# Altium footprint library EXTRA.PcbLib: 25 footprints (part 1 of 2)
Each footprint in its own frame and in the unit in brackets; x right, y up, seen from the top. Pads: shape width x height; smd on the part's side, far side on the other; paste and mask are expansions set on the pad; w line width, h text height; cw(c..) or ccw(c..) is an arc to the next point about the centre after c.
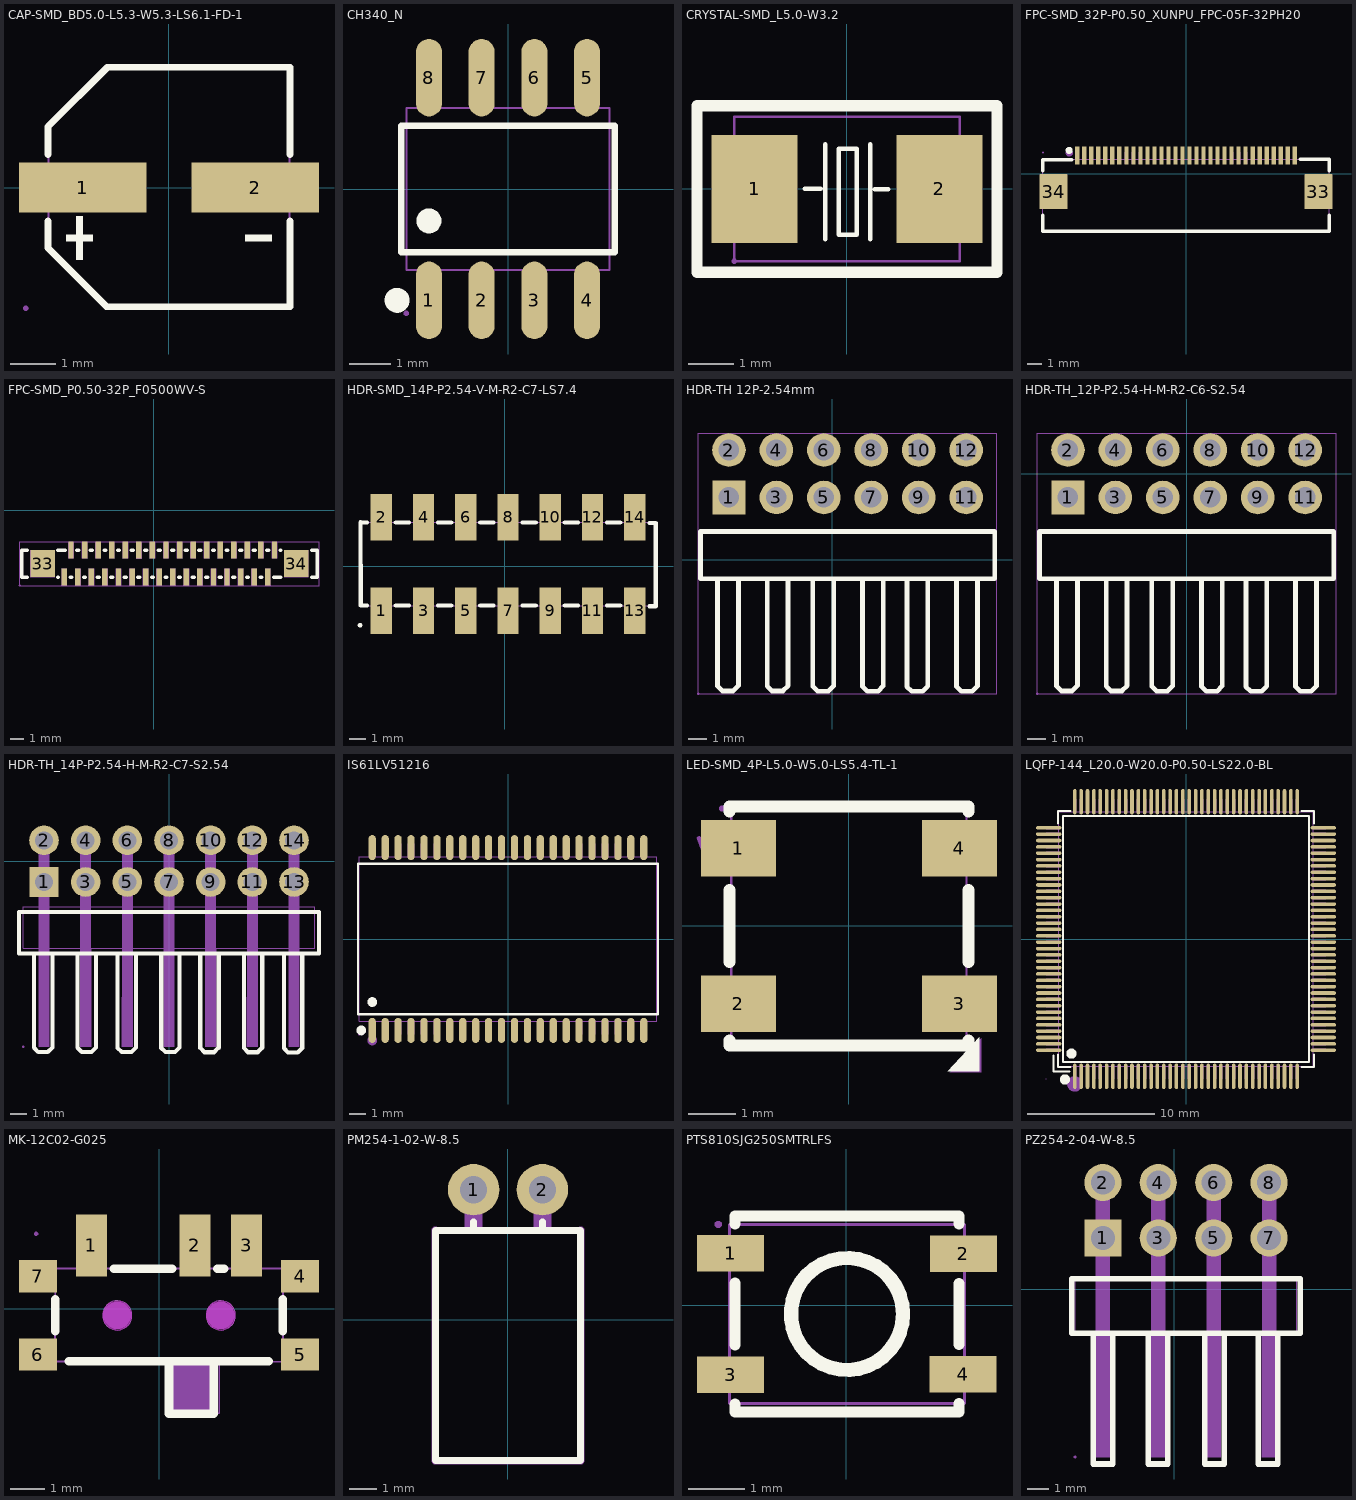
[diagram p0: the footprints below, top view; thin cyan lines are the x and y axes]

## CAP-SMD_BD5.0-L5.3-W5.3-LS6.1-FD-1 [mm]
pads (2):
  rect 2.8x1.1 smd: 1(-1.9,0) 2(1.9,0)
Top Overlay:
  region: -2.04,-0.624 -2.04,-1.584 -1.896,-1.584 -1.896,-0.624
  region: -2.256,-1.032 -2.256,-1.176 -1.68,-1.176 -1.68,-1.032
  region: 2.256,-1.032 2.256,-1.176 1.68,-1.176 1.68,-1.032
  lines w0.152: -2.659,-0.73 -2.659,-1.331 -1.372,-2.619 2.649,-2.619 ; -2.659,0.73 -2.659,1.341 -1.349,2.649 2.659,2.649 2.659,0.73 ; 2.659,-2.619 2.659,-0.73
Mechanical 6:
  region: -2.04,0.48 -2.04,-0.48 -1.896,-0.48 -1.896,0.48
  region: -2.256,0.072 -2.256,-0.072 -1.68,-0.072 -1.68,0.072
  region: 2.256,0.072 2.256,-0.072 1.68,-0.072 1.68,0.072
Mechanical 15:
  region: 0.95,0.325 3.15,0.325 3.15,-0.325 0.95,-0.325
  region: -3.15,0.325 -0.95,0.325 -0.95,-0.325 -3.15,-0.325
  region: -3.09,-2.65 -3.091,-2.626 -3.126,-2.592 -3.174,-2.592 -3.209,-2.626 -3.21,-2.65 -3.209,-2.674 -3.174,-2.708 -3.126,-2.708 -3.091,-2.674
  lines w0.051: -2.65,-1.35 -2.65,1.35 -1.35,2.65 2.65,2.65 2.65,-2.65 -1.35,-2.65 -2.65,-1.35
3D body "3D_PCB1_2024-03-23.stp": height 6.11, standoff -0.06, extent -2.931,-2.66 2.769,2.64

## CH340_N [mm] "USB转串口小封装芯片"
pads (8):
  oval 0.63x1.865 smd: 1(-1.905,-2.682) 2(-0.635,-2.682) 3(0.635,-2.682) 4(1.905,-2.682) 5(1.905,2.682) 6(0.635,2.682) 7(-0.635,2.682)
  oval 0.63x1.865 smd mask+0.102: 8(-1.905,2.682)
Top Overlay:
  circle w0.3: c-2.672,-2.682 r0.15
  circle w0.3: c-1.905,-0.769 r0.15
  lines w0.152: -2.576,-1.521 2.576,-1.521 2.576,1.521 -2.576,1.521 -2.576,-1.521
Mechanical 15:
  region: -2.115,-3 -2.115,-2.165 -1.695,-2.165 -1.695,-3
  region: -2.115,-2.175 -2.115,-1.94 -1.695,-1.94 -1.695,-2.175
  region: -0.845,-3 -0.845,-2.165 -0.425,-2.165 -0.425,-3
  region: -0.845,-2.175 -0.845,-1.94 -0.425,-1.94 -0.425,-2.175
  region: 0.425,-3 0.425,-2.165 0.845,-2.165 0.845,-3
  region: 0.425,-2.175 0.425,-1.94 0.845,-1.94 0.845,-2.175
  region: 1.695,-3 1.695,-2.165 2.115,-2.165 2.115,-3
  region: 1.695,-2.175 1.695,-1.94 2.115,-1.94 2.115,-2.175
  region: -2.115,2.165 -2.115,3 -1.695,3 -1.695,2.165
  region: -2.115,1.94 -2.115,2.175 -1.695,2.175 -1.695,1.94
  region: -0.845,2.165 -0.845,3 -0.425,3 -0.425,2.165
  region: -0.845,1.94 -0.845,2.175 -0.425,2.175 -0.425,1.94
  region: 0.425,2.165 0.425,3 0.845,3 0.845,2.165
  region: 0.425,1.94 0.425,2.175 0.845,2.175 0.845,1.94
  region: 1.695,2.165 1.695,3 2.115,3 2.115,2.165
  region: 1.695,1.94 1.695,2.175 2.115,2.175 2.115,1.94
  region: -2.39,-3 -2.39,-2.975 -2.425,-2.94 -2.475,-2.94 -2.51,-2.975 -2.51,-3 -2.51,-3.025 -2.475,-3.06 -2.425,-3.06 -2.39,-3.025
  lines w0.051: -2.45,-1.95 2.45,-1.95 2.45,1.95 -2.45,1.95 -2.45,-1.95
3D body "123.stp": height 1.67, standoff -0.05, extent -2.425,-2.94 2.39,3.06

## CRYSTAL-SMD_L5.0-W3.2 [mm] "8M 贴片晶振"
pads (2):
  rect 1.9x2.4 smd: 1(-2.05,0) 2(2.05,0)
Top Overlay:
  lines w0.1: -0.94,0 -0.584,0 ; -0.483,-1.109 -0.483,0.991 ; 0.517,-1.109 0.517,0.991 ; 0.617,-0.009 0.917,-0.009 ; -0.183,-1.009 -0.183,0.89 0.217,0.89 0.217,-1.009 -0.183,-1.009
  lines w0.254: -3.325,-1.85 3.325,-1.85 3.325,-0.7 3.325,0.7 3.325,1.85 -3.325,1.85 -3.325,0.7 -3.325,-0.7 -3.325,-1.85
Mechanical 15:
  region: -2.44,-1.6 -2.44,-1.575 -2.475,-1.54 -2.525,-1.54 -2.56,-1.575 -2.56,-1.6 -2.56,-1.625 -2.525,-1.66 -2.475,-1.66 -2.44,-1.625
  region: -2.4,1 -1.3,1 -1.3,-1 -2.4,-1
  region: 1.3,1 2.4,1 2.4,-1 1.3,-1
  lines w0.051: -2.5,-1.6 -2.5,1.6 2.5,1.6 2.5,-1.6 -2.5,-1.6
3D body "X1.stp": height 1.41, standoff -0.01, extent -2.5,-1.6 2.5,1.6

## FPC-SMD_32P-P0.50_XUNPU_FPC-05F-32PH20 [mm] "32pin FPC排线 弯针"
pads (34):
  rect 0.3x1.25 smd paste+0 mask+0.05: 1(-7.75,1.288) 2(-7.25,1.288) 3(-6.75,1.288) 4(-6.25,1.288) 5(-5.75,1.288) 6(-5.25,1.288) 7(-4.75,1.288) 8(-4.25,1.288) 9(-3.75,1.288) 10(-3.25,1.288) 11(-2.75,1.288) 12(-2.25,1.288) 13(-1.75,1.288) 14(-1.25,1.288) 15(-0.75,1.288) 16(-0.25,1.288) 17(0.25,1.288) 18(0.75,1.288) 19(1.25,1.288) 20(1.75,1.288) 21(2.25,1.288) 22(2.75,1.288) 23(3.25,1.288) 24(3.75,1.288) 25(4.25,1.288) 26(4.75,1.288) 27(5.25,1.288) 28(5.75,1.288) 29(6.25,1.288) 30(6.75,1.288) 31(7.25,1.288) 32(7.75,1.288)
  rect 2x2.5 smd paste+0 mask+0.05: 33(9.44,-1.288) 34(-9.44,-1.288)
Top Overlay:
  circle w0.254: c-8.327,1.651 r0.127
  lines w0.254: -10.2,-2.969 -10.2,-4.113 10.2,-4.113 10.2,-2.969 ; -10.2,0.194 -10.2,1 -8.131,1 ; 8.131,1.016 10.2,1.016 10.2,0.194
Mechanical 6:
  circle w0.254: c-8.317,1.471 r0.127
Mechanical 15:
  drawing of 39 lines, arcs and shapes, not listed
3D body "FPC.stp": height 2.01, standoff 0, extent -10.2,-4.113 10.2,1.287

## FPC-SMD_P0.50-32P_F0500WV-S [mm] "FPC_32PIN 直立"
height 0.508
pads (34):
  rect 0.4x1.25 smd paste+0 mask+0.051: 1(-6.607,-4.938) 2(-6.109,-2.936) 3(-5.609,-4.936) 4(-5.109,-2.936) 5(-4.609,-4.936) 6(-4.109,-2.936) 7(-3.609,-4.936) 8(-3.109,-2.936) 9(-2.609,-4.936) 10(-2.109,-2.936) 11(-1.609,-4.936) 12(-1.107,-2.938) 13(-0.609,-4.936) 14(-0.109,-2.936) 15(0.391,-4.936) 16(0.891,-2.936) 17(1.391,-4.936) 18(1.891,-2.936) 19(2.391,-4.936) 20(2.891,-2.936) 21(3.391,-4.936) 22(3.891,-2.936) 23(4.393,-4.938) 24(4.891,-2.936) 25(5.391,-4.936) 26(5.891,-2.936) 27(6.393,-4.938) 28(6.891,-2.936) 29(7.391,-4.936) 30(7.891,-2.936) 31(8.391,-4.936) 32(8.891,-2.936)
  rect 1.8x2 smd paste+0 mask+0.051: 33(-8.207,-3.938) 34(10.493,-3.938)
Top Overlay:
  lines w0.254: -9.338,-4.938 -9.757,-4.938 -9.757,-2.938 -9.338,-2.938 ; -7.076,-4.938 -7.038,-4.938 ; -7.076,-2.938 -6.54,-2.938 ; -6.176,-4.938 -6.04,-4.938 ; -5.678,-2.938 -5.54,-2.938 ; -5.178,-4.938 -5.04,-4.938 ; -4.678,-2.938 -4.54,-2.938 ; -4.178,-4.938 -4.04,-4.938 ; -3.678,-2.938 -3.54,-2.938 ; -3.178,-4.938 -3.04,-4.938 ; -2.678,-2.938 -2.54,-2.938 ; -2.178,-4.938 -2.04,-4.938 ; -1.678,-2.938 -1.538,-2.938 ; -1.178,-4.938 -1.04,-4.938 ; -0.676,-2.938 -0.54,-2.938 ; -0.178,-4.938 -0.04,-4.938 ; 0.322,-2.938 0.46,-2.938 ; 0.822,-4.938 0.96,-4.938 ; 1.322,-2.938 1.46,-2.938 ; 1.822,-4.938 1.96,-4.938 ; 2.322,-2.938 2.46,-2.938 ; 2.822,-4.938 2.96,-4.938 ; 3.322,-2.938 3.46,-2.938 ; 3.822,-4.938 3.962,-4.938 ; 4.322,-2.938 4.46,-2.938 ; 4.824,-4.938 4.96,-4.938 ; 5.322,-2.938 5.46,-2.938 ; 5.822,-4.938 5.962,-4.938 ; 6.322,-2.938 6.46,-2.938 ; 6.824,-4.938 6.96,-4.938 ; 7.322,-2.938 7.46,-2.938 ; 7.822,-4.938 7.96,-4.938 ; 8.322,-2.938 8.46,-2.938 ; 8.822,-4.938 9.362,-4.938 ; 9.322,-2.938 9.362,-2.938 ; 11.624,-4.938 12.043,-4.938 12.043,-2.938 11.624,-2.938
Mechanical 15:
  drawing of 39 lines, arcs and shapes, not listed

## HDR-SMD_14P-P2.54-V-M-R2-C7-LS7.4 [mm] "2.54mm 2x7p贴片排针"
pads (14):
  rect 1.27x2.8 smd paste+0 mask+0.05: 1(-7.433,-2.664) 2(-7.433,2.936) 3(-4.893,-2.664) 4(-4.893,2.936) 5(-2.353,-2.664) 6(-2.353,2.936) 7(0.187,-2.664) 8(0.187,2.936) 9(2.727,-2.664) 10(2.727,2.936) 11(5.267,-2.664) 12(5.267,2.936) 13(7.807,-2.664) 14(7.807,2.936)
Top Overlay:
  lines w0.254: -8.726,-3.547 -8.68,-3.547 ; -8.678,2.651 -8.673,-2.364 -8.299,-2.364 ; -8.673,2.651 -8.573,2.636 -8.299,2.636 ; -6.567,-2.364 -5.759,-2.364 ; -6.567,2.636 -5.759,2.636 ; -4.027,-2.364 -3.219,-2.364 ; -4.027,2.636 -3.219,2.636 ; -1.487,-2.364 -0.679,-2.364 ; -1.487,2.636 -0.679,2.636 ; 1.053,-2.364 1.861,-2.364 ; 1.053,2.636 1.861,2.636 ; 3.593,-2.364 4.401,-2.364 ; 3.593,2.636 4.401,2.636 ; 6.133,-2.364 6.941,-2.364 ; 6.133,2.636 6.941,2.636 ; 8.695,-2.403 9.076,-2.403 9.076,2.596 8.695,2.596
Mechanical 15:
  region: -7.753,-1.564 -7.113,-1.564 -7.113,-3.564 -7.753,-3.564
  region: -5.213,-1.564 -4.573,-1.564 -4.573,-3.564 -5.213,-3.564
  region: -2.673,-1.564 -2.033,-1.564 -2.033,-3.564 -2.673,-3.564
  region: -0.133,-1.564 0.507,-1.564 0.507,-3.564 -0.133,-3.564
  region: 2.407,-1.564 3.047,-1.564 3.047,-3.564 2.407,-3.564
  region: 4.947,-1.564 5.587,-1.564 5.587,-3.564 4.947,-3.564
  region: 7.487,-1.564 8.127,-1.564 8.127,-3.564 7.487,-3.564
  region: 7.487,3.836 8.127,3.836 8.127,1.836 7.487,1.836
  region: 4.947,3.836 5.587,3.836 5.587,1.836 4.947,1.836
  region: 2.407,3.836 3.047,3.836 3.047,1.836 2.407,1.836
  region: -0.133,3.836 0.507,3.836 0.507,1.836 -0.133,1.836
  region: -2.673,3.836 -2.033,3.836 -2.033,1.836 -2.673,1.836
  region: -5.213,3.836 -4.573,3.836 -4.573,1.836 -5.213,1.836
  region: -7.753,3.836 -7.113,3.836 -7.113,1.836 -7.753,1.836
  region: -8.643,-3.564 -8.643,-3.539 -8.678,-3.504 -8.728,-3.504 -8.763,-3.539 -8.763,-3.564 -8.763,-3.589 -8.728,-3.624 -8.678,-3.624 -8.643,-3.589
  lines w0.051: -8.703,-2.364 9.077,-2.364 9.077,2.636 -8.703,2.636 -8.703,-2.364

## HDR-TH 12P-2.54mm [mm] "上下6p弯曲排针"
pads (12):
  rect 1.778x1.8 hole 1.1: 1(-5.528,3.328)
  round 1.8 hole 1.1: 2(-5.528,5.868) 3(-2.988,3.328) 4(-2.988,5.868) 5(-0.448,3.328) 6(-0.448,5.868) 7(2.092,3.328) 8(2.092,5.868) 9(4.632,3.328) 10(4.632,5.868) 11(7.172,3.328) 12(7.172,5.868)
Top Overlay:
  lines w0.254: -6.135,-1.032 -6.135,-6.778 -5.881,-7.032 -5.297,-7.032 -5.018,-6.753 -5.018,-1.032 ; -3.478,-1.032 -3.478,-6.778 -3.224,-7.032 -2.64,-7.032 -2.36,-6.753 -2.36,-1.032 ; -1.038,-1.042 -1.038,-6.788 -0.784,-7.042 -0.2,-7.042 0.08,-6.763 0.08,-1.042 ; 1.62,-1.042 1.62,-6.788 1.874,-7.042 2.458,-7.042 2.737,-6.763 2.737,-1.042 ; 4.002,-1.052 4.002,-6.798 4.256,-7.052 4.84,-7.052 5.12,-6.773 5.12,-1.052 ; 6.659,-1.052 6.659,-6.798 6.913,-7.052 7.498,-7.052 7.777,-6.773 7.777,-1.052 ; -7.052,-1.032 -7.052,1.508 8.696,1.508 8.696,-1.032 -6.958,-1.032 -7.052,-1.032
Mechanical 15:
  drawing of 17 lines, arcs and shapes, not listed

## HDR-TH_12P-P2.54-H-M-R2-C6-S2.54 [mm] "2x6p 弯针"
pads (12):
  rect 1.778x1.8 hole 1.1: 1(-6.35,-1.27)
  round 1.8 hole 1.1: 2(-6.35,1.27) 3(-3.81,-1.27) 4(-3.81,1.27) 5(-1.27,-1.27) 6(-1.27,1.27) 7(1.27,-1.27) 8(1.27,1.27) 9(3.81,-1.27) 10(3.81,1.27) 11(6.35,-1.27) 12(6.35,1.27)
Top Overlay:
  lines w0.254: -6.957,-5.63 -6.957,-11.376 -6.703,-11.63 -6.119,-11.63 -5.84,-11.351 -5.84,-5.63 ; -4.3,-5.63 -4.3,-11.376 -4.046,-11.63 -3.462,-11.63 -3.182,-11.351 -3.182,-5.63 ; -1.86,-5.64 -1.86,-11.386 -1.606,-11.64 -1.022,-11.64 -0.742,-11.361 -0.742,-5.64 ; 0.798,-5.64 0.798,-11.386 1.052,-11.64 1.636,-11.64 1.915,-11.361 1.915,-5.64 ; 3.18,-5.65 3.18,-11.396 3.434,-11.65 4.018,-11.65 4.298,-11.371 4.298,-5.65 ; 5.837,-5.65 5.837,-11.396 6.091,-11.65 6.676,-11.65 6.955,-11.371 6.955,-5.65 ; -7.874,-5.63 -7.78,-5.63 7.874,-5.63 7.874,-3.09 -7.874,-3.09 -7.874,-5.63
Mechanical 15:
  drawing of 17 lines, arcs and shapes, not listed
3D body "xxxxxx.stp": height 5, standoff -3, extent -7.625,-11.249 7.625,1.651

## HDR-TH_14P-P2.54-H-M-R2-C7-S2.54 [mm]
pads (14):
  rect 1.778x1.8 hole 1.1: 1(-7.62,-1.27)
  round 1.8 hole 1.1: 2(-7.62,1.27) 3(-5.08,-1.27) 4(-5.08,1.27) 5(-2.54,-1.27) 6(-2.54,1.27) 7(0,-1.27) 8(0,1.27) 9(2.54,-1.27) 10(2.54,1.27) 11(5.08,-1.27) 12(5.08,1.27) 13(7.62,-1.27) 14(7.62,1.27)
Top Overlay:
  lines w0.254: -8.227,-5.63 -8.227,-11.376 -7.973,-11.63 -7.389,-11.63 -7.11,-11.351 -7.11,-5.63 ; -5.57,-5.63 -5.57,-11.376 -5.316,-11.63 -4.732,-11.63 -4.452,-11.351 -4.452,-5.63 ; -3.13,-5.64 -3.13,-11.386 -2.876,-11.64 -2.292,-11.64 -2.012,-11.361 -2.012,-5.64 ; -0.472,-5.64 -0.472,-11.386 -0.218,-11.64 0.366,-11.64 0.645,-11.361 0.645,-5.64 ; 1.91,-5.65 1.91,-11.396 2.164,-11.65 2.748,-11.65 3.028,-11.371 3.028,-5.65 ; 4.567,-5.65 4.567,-11.396 4.821,-11.65 5.406,-11.65 5.685,-11.371 5.685,-5.65 ; 7.008,-5.66 7.008,-11.406 7.262,-11.66 7.846,-11.66 8.125,-11.381 8.125,-5.66 ; -9.144,-5.63 -9.144,-3.09 9.144,-3.09 9.144,-5.63 -9.05,-5.63 -9.144,-5.63
Mechanical 6:
  region: 7.3,-5.3 7.95,-5.3 7.95,-11.31 7.29,-11.31 7.29,-11.24
  region: 4.76,-5.3 5.41,-5.3 5.41,-11.31 4.75,-11.31 4.75,-11.24
  region: 2.22,-5.3 2.87,-5.3 2.87,-11.31 2.21,-11.31 2.21,-11.24
  region: -0.32,-5.3 0.33,-5.3 0.33,-11.31 -0.33,-11.31 -0.33,-11.24
  region: -2.86,-5.3 -2.21,-5.3 -2.21,-11.31 -2.87,-11.31 -2.87,-11.24
  region: -5.4,-5.3 -4.75,-5.3 -4.75,-11.31 -5.41,-11.31 -5.41,-11.24
  region: -7.94,-5.3 -7.29,-5.3 -7.29,-11.31 -7.95,-11.31 -7.95,-11.24
Mechanical 15:
  region: 7.3,-11.311 7.3,1.589 7.94,1.589 7.94,-11.311
  region: 4.76,-11.311 4.76,1.589 5.4,1.589 5.4,-11.311
  region: 2.22,-11.311 2.22,1.589 2.86,1.589 2.86,-11.311
  region: -0.32,-11.311 -0.32,1.589 0.32,1.589 0.32,-11.311
  region: -2.86,-11.311 -2.86,1.589 -2.22,1.589 -2.22,-11.311
  region: -5.4,-11.311 -5.4,1.589 -4.76,1.589 -4.76,-11.311
  region: -7.94,-11.311 -7.94,1.589 -7.3,1.589 -7.3,-11.311
  region: -7.3,-1.59 -7.94,-1.59 -7.94,-0.95 -7.3,-0.95
  region: -7.3,0.95 -7.94,0.95 -7.94,1.59 -7.3,1.59
  region: -4.76,-1.59 -5.4,-1.59 -5.4,-0.95 -4.76,-0.95
  region: -4.76,0.95 -5.4,0.95 -5.4,1.59 -4.76,1.59
  region: -2.22,-1.59 -2.86,-1.59 -2.86,-0.95 -2.22,-0.95
  region: -2.22,0.95 -2.86,0.95 -2.86,1.59 -2.22,1.59
  region: 0.32,-1.59 -0.32,-1.59 -0.32,-0.95 0.32,-0.95
  region: 0.32,0.95 -0.32,0.95 -0.32,1.59 0.32,1.59
  region: 2.86,-1.59 2.22,-1.59 2.22,-0.95 2.86,-0.95
  region: 2.86,0.95 2.22,0.95 2.22,1.59 2.86,1.59
  region: 5.4,-1.59 4.76,-1.59 4.76,-0.95 5.4,-0.95
  region: 5.4,0.95 4.76,0.95 4.76,1.59 5.4,1.59
  region: 7.94,-1.59 7.3,-1.59 7.3,-0.95 7.94,-0.95
  region: 7.94,0.95 7.3,0.95 7.3,1.59 7.94,1.59
  region: -8.833,-11.311 -8.833,-11.336 -8.868,-11.371 -8.917,-11.371 -8.953,-11.336 -8.953,-11.311 -8.953,-11.286 -8.917,-11.251 -8.868,-11.251 -8.833,-11.286
  lines w0.051: -8.893,-5.307 -8.893,-4.546 -8.883,-2.792 8.892,-2.792 8.892,-5.307 -8.893,-5.307
3D body "Unnamed-EasyEDA PCB Model~vdyU.step": height 6.6, standoff -1.4, extent -8.844,-11.297 8.937,1.583

## IS61LV51216 [mm] "TSOP-44_L18.4-W10.2-P0.80-LS11.8-BL"
pads (44):
  oval 0.448x1.551 smd: 1(-8.4,-5.656) 2(-7.6,-5.656) 3(-6.8,-5.656) 4(-6,-5.656) 5(-5.2,-5.656) 6(-4.4,-5.656) 7(-3.6,-5.656) 8(-2.8,-5.656) 9(-2,-5.656) 10(-1.2,-5.656) 11(-0.4,-5.656) 12(0.4,-5.656) 13(1.2,-5.656) 14(2,-5.656) 15(2.8,-5.656) 16(3.6,-5.656) 17(4.4,-5.656) 18(5.2,-5.656) 19(6,-5.656) 20(6.8,-5.656) 21(7.6,-5.656) 22(8.4,-5.656) 23(8.4,5.656) 24(7.6,5.656) 25(6.8,5.656) 26(6,5.656) 27(5.2,5.656) 28(4.4,5.656) 29(3.6,5.656) 30(2.8,5.656) 31(2,5.656) 32(1.2,5.656) 33(0.4,5.656) 34(-0.4,5.656) 35(-1.2,5.656) 36(-2,5.656) 37(-2.8,5.656) 38(-3.6,5.656) 39(-4.4,5.656) 40(-5.2,5.656) 41(-6,5.656) 42(-6.8,5.656) 43(-7.6,5.656) 44(-8.4,5.656)
Top Overlay:
  circle w0.3: c-8.4,-3.899 r0.15
  circle w0.3: c-9.076,-5.656 r0.15
  lines w0.152: -9.281,-4.651 -9.281,4.651 9.281,4.651 9.281,-4.651 -9.281,-4.651
Mechanical 6:
  circle w0.3: c-8.4,-6.28 r0.15
Mechanical 15:
  drawing of 93 lines, arcs and shapes, not listed
3D body "SRAM.stp": height 1.1, standoff 0, extent -9.205,-5.906 9.195,5.906

## LED-SMD_4P-L5.0-W5.0-LS5.4-TL-1 [mm]
pads (4):
  rect 1.6x1.2 smd paste+0 mask+0.05: 1(-2.35,1.65) 2(-2.35,-1.65) 3(2.35,-1.65) 4(2.35,1.65)
Top Overlay:
  region: 2.101,-3.085 2.775,-3.085 2.775,-2.361
  lines w0.254: -2.54,-2.431 -2.54,-2.54 2.54,-2.54 2.54,-2.431 ; -2.54,-0.769 -2.54,0.769 ; -2.54,2.431 -2.54,2.54 2.54,2.54 2.54,2.431 ; 2.54,-0.769 2.54,0.769
Mechanical 6:
  region: -2.723,1.909 -2.759,1.912 -2.782,1.894 -2.964,1.433 -3.144,1.89 -3.175,1.911 -3.199,1.911 -3.219,1.899 -3.231,1.875 -3.229,1.843 -3.01,1.26 -2.993,1.249 -2.972,1.241 -2.949,1.241 -2.926,1.249 -2.914,1.277 -2.695,1.856 -2.693,1.873 -2.707,1.896
  region: -2.582,1.915 -2.357,1.912 -2.251,1.862 -2.187,1.803 -2.155,1.727 -2.128,1.642 -2.13,1.491 -2.162,1.39 -2.198,1.333 -2.262,1.276 -2.381,1.239 -2.588,1.244 -2.615,1.267 -2.617,1.296 -2.617,1.362 -2.514,1.359 -2.517,1.344 -2.393,1.341 -2.318,1.365 -2.275,1.401 -2.256,1.448 -2.233,1.517 -2.236,1.63 -2.281,1.749 -2.319,1.791 -2.383,1.809 -2.515,1.81
  region: -2.581,1.915 -2.615,1.885 -2.618,1.358 -2.51,1.357 -2.516,1.81
  region: -2.029,1.912 -1.804,1.909 -1.698,1.859 -1.634,1.8 -1.602,1.724 -1.575,1.639 -1.577,1.488 -1.609,1.387 -1.645,1.33 -1.709,1.273 -1.828,1.237 -2.035,1.241 -2.062,1.264 -2.064,1.293 -2.064,1.359 -1.961,1.356 -1.964,1.341 -1.84,1.338 -1.765,1.362 -1.722,1.398 -1.703,1.445 -1.68,1.514 -1.683,1.627 -1.728,1.746 -1.766,1.788 -1.83,1.806 -1.962,1.808
  region: -2.028,1.912 -2.062,1.882 -2.065,1.355 -1.957,1.354 -1.963,1.808
  region: 2.143,-3.113 2.816,-3.113 2.816,-2.39
Mechanical 15:
  region: -2.7,2.1 -1.8,2.1 -1.8,1.2 -2.7,1.2
  region: -2.7,-1.2 -1.8,-1.2 -1.8,-2.1 -2.7,-2.1
  region: 1.8,-1.2 2.7,-1.2 2.7,-2.1 1.8,-2.1
  region: 1.8,2.1 2.7,2.1 2.7,1.2 1.8,1.2
  region: -2.64,2.5 -2.64,2.475 -2.675,2.44 -2.725,2.44 -2.76,2.475 -2.76,2.5 -2.76,2.525 -2.725,2.56 -2.675,2.56 -2.64,2.525 -2.64,2.5
  lines w0.051: -2.5,-2.5 2.5,-2.5 2.5,2.5 -2.5,2.5 -2.5,-2.5
3D body "未命名-EasyEDA PCB Model~AiEG.step": height 1.55, standoff -0.05, extent -2.811,-2.51 2.649,2.49

## LQFP-144_L20.0-W20.0-P0.50-LS22.0-BL [mm] "意法半导体主控芯片"
pads (144):
  oval 0.28x2 smd paste+0 mask+0.051: 1(-8.75,-10.8) 2(-8.25,-10.8) 3(-7.75,-10.8) 4(-7.25,-10.8) 5(-6.75,-10.8) 6(-6.25,-10.8) 7(-5.75,-10.8) 8(-5.25,-10.8) 9(-4.75,-10.8) 10(-4.25,-10.8) 11(-3.75,-10.8) 12(-3.25,-10.8) 13(-2.75,-10.8) 14(-2.25,-10.8) 15(-1.75,-10.8) 16(-1.25,-10.8) 17(-0.75,-10.8) 18(-0.25,-10.8) 19(0.25,-10.8) 20(0.75,-10.8) 21(1.25,-10.8) 22(1.75,-10.8) 23(2.25,-10.8) 24(2.75,-10.8) 25(3.25,-10.8) 26(3.75,-10.8) 27(4.25,-10.8) 28(4.75,-10.8) 29(5.25,-10.8) 30(5.75,-10.8) 31(6.25,-10.8) 32(6.75,-10.8) 33(7.25,-10.8) 34(7.75,-10.8) 35(8.25,-10.8) 36(8.75,-10.8) 73(8.75,10.8) 74(8.25,10.8) 75(7.75,10.8) 76(7.25,10.8) 77(6.75,10.8) 78(6.25,10.8) 79(5.75,10.8) 80(5.25,10.8) 81(4.75,10.8) 82(4.25,10.8) 83(3.75,10.8) 84(3.25,10.8) 85(2.75,10.8) 86(2.25,10.8) 87(1.75,10.8) 88(1.25,10.8) 89(0.75,10.8) 90(0.25,10.8) 91(-0.25,10.8) 92(-0.75,10.8) 93(-1.25,10.8) 94(-1.75,10.8) 95(-2.25,10.8) 96(-2.75,10.8) 97(-3.25,10.8) 98(-3.75,10.8) 99(-4.25,10.8) 100(-4.75,10.8) 101(-5.25,10.8) 102(-5.75,10.8) 103(-6.25,10.8) 104(-6.75,10.8) 105(-7.25,10.8) 106(-7.75,10.8) 107(-8.25,10.8) 108(-8.75,10.8)
  oval 2x0.28 smd paste+0 mask+0.051: 37(10.8,-8.75) 38(10.8,-8.25) 39(10.8,-7.75) 40(10.8,-7.25) 41(10.8,-6.75) 42(10.8,-6.25) 43(10.8,-5.75) 44(10.8,-5.25) 45(10.8,-4.75) 46(10.8,-4.25) 47(10.8,-3.75) 48(10.8,-3.25) 49(10.8,-2.75) 50(10.8,-2.25) 51(10.8,-1.75) 52(10.8,-1.25) 53(10.8,-0.75) 54(10.8,-0.25) 55(10.8,0.25) 56(10.8,0.75) 57(10.8,1.25) 58(10.8,1.75) 59(10.8,2.25) 60(10.8,2.75) 61(10.8,3.25) 62(10.8,3.75) 63(10.8,4.25) 64(10.8,4.75) 65(10.8,5.25) 66(10.8,5.75) 67(10.8,6.25) 68(10.8,6.75) 69(10.8,7.25) 70(10.8,7.75) 71(10.8,8.25) 72(10.8,8.75) 109(-10.8,8.75) 110(-10.8,8.25) 111(-10.8,7.75) 112(-10.8,7.25) 113(-10.8,6.75) 114(-10.8,6.25) 115(-10.8,5.75) 116(-10.8,5.25) 117(-10.8,4.75) 118(-10.8,4.25) 119(-10.8,3.75) 120(-10.8,3.25) 121(-10.8,2.75) 122(-10.8,2.25) 123(-10.8,1.75) 124(-10.8,1.25) 125(-10.8,0.75) 126(-10.8,0.25) 127(-10.8,-0.25) 128(-10.8,-0.75) 129(-10.8,-1.25) 130(-10.8,-1.75) 131(-10.8,-2.25) 132(-10.8,-2.75) 133(-10.8,-3.25) 134(-10.8,-3.75) 135(-10.8,-4.25) 136(-10.8,-4.75) 137(-10.8,-5.25) 138(-10.8,-5.75) 139(-10.8,-6.25) 140(-10.8,-6.75) 141(-10.8,-7.25) 142(-10.8,-7.75) 143(-10.8,-8.25) 144(-10.8,-8.75)
Top Overlay:
  circle w0.4: c-9.525,-11.049 r0.2
  circle w0.4: c-9.017,-9.017 r0.2
  lines w0.152: -10.414,-9.144 -10.414,-10.414 -9.144,-10.414 ; -10.076,-9.081 -10.076,-10.076 -9.08,-10.076 ; -10.076,9.08 -10.076,10.076 -9.08,10.076 ; 9.081,-10.076 10.076,-10.076 10.076,-9.081 ; 9.081,10.076 10.076,10.076 10.076,9.08 ; -9.671,-9.671 -9.671,9.671 9.671,9.671 9.671,-9.671 -9.671,-9.671
Mechanical 6:
  circle w0.6: c-8.75,-11.4 r0.3
Mechanical 15:
  drawing of 293 lines, arcs and shapes, not listed
3D body "456.stp": height 1.4, standoff -0.1, extent -11.026,-11.01 10.974,10.99

## MK-12C02-G025 [mm] "贴片拨动开关"
pads (7):
  rect 0.9x1.8 smd: 1(-1.964,1.835) 2(1.036,1.835) 3(2.536,1.835)
  rect 1.1x0.93 smd: 4(4.086,0.939) 5(4.086,-1.331) 6(-3.514,-1.331) 7(-3.514,0.939)
Top Overlay:
  lines w0.254: -3.014,-0.658 -3.014,0.266 ; -2.614,-1.524 3.175,-1.524 ; -1.306,1.154 0.378,1.154 ; 0.286,-1.546 0.286,-3.046 1.586,-3.046 1.586,-1.546 ; 1.694,1.154 1.878,1.154 ; 3.586,-0.658 3.586,0.266
Keep-Out Layer:
  board cut-out: -0.789,-0.196 -0.789,-0.112 -0.854,0.044 -0.973,0.164 -1.13,0.229 -1.299,0.229 -1.455,0.164 -1.574,0.044 -1.639,-0.112 -1.639,-0.196 -1.639,-0.281 -1.574,-0.437 -1.455,-0.557 -1.299,-0.621 -1.129,-0.621 -0.973,-0.557 -0.854,-0.437 -0.789,-0.281
  board cut-out: 2.211,-0.196 2.211,-0.112 2.146,0.044 2.027,0.164 1.87,0.229 1.701,0.229 1.545,0.164 1.426,0.044 1.361,-0.112 1.361,-0.196 1.361,-0.281 1.426,-0.437 1.545,-0.557 1.701,-0.621 1.87,-0.621 2.027,-0.557 2.146,-0.437 2.211,-0.281
Mechanical 1:
  circle w0.005: c-1.214,-0.196 r0.425
  circle w0.005: c1.786,-0.196 r0.425
Mechanical 6:
  circle w0.4: c1.786,-0.196 r0.2
  circle w0.4: c-1.214,-0.196 r0.2
  region: 0.386,-1.548 0.386,-3.048 1.686,-3.048 1.686,-1.548
Mechanical 15:
  region: 3.542,-1.546 3.542,-1.116 4.142,-1.116 4.142,-1.546
  region: 3.542,0.724 3.542,1.154 4.142,1.154 4.142,0.724
  region: -3.567,-1.546 -3.567,-1.116 -2.967,-1.116 -2.967,-1.546
  region: -3.567,0.724 -3.567,1.154 -2.967,1.154 -2.967,0.724
  region: 2.736,0.965 2.336,0.965 2.336,2.165 2.736,2.165
  region: 1.236,0.965 0.836,0.965 0.836,2.165 1.236,2.165
  region: -1.764,0.965 -2.164,0.965 -2.164,2.165 -1.764,2.165
  region: -3.507,2.165 -3.507,2.189 -3.542,2.223 -3.591,2.223 -3.626,2.189 -3.627,2.165 -3.626,2.141 -3.591,2.107 -3.542,2.107 -3.507,2.141
  lines w0.051: -3.017,-1.537 -3.017,-1.372 -3.014,1.165 3.591,1.165 3.591,-1.541 1.743,-1.541 1.743,-3.037 0.445,-3.037 0.445,-1.537 -3.017,-1.537
Multi-Layer keep-out:
  region: -0.789,-0.196 -0.789,-0.112 -0.854,0.044 -0.973,0.164 -1.13,0.229 -1.299,0.229 -1.455,0.164 -1.574,0.044 -1.639,-0.112 -1.639,-0.196 -1.639,-0.281 -1.574,-0.437 -1.455,-0.557 -1.299,-0.621 -1.129,-0.621 -0.973,-0.557 -0.854,-0.437 -0.789,-0.281
  region: 2.211,-0.196 2.211,-0.112 2.146,0.044 2.027,0.164 1.87,0.229 1.701,0.229 1.545,0.164 1.426,0.044 1.361,-0.112 1.361,-0.196 1.361,-0.281 1.426,-0.437 1.545,-0.557 1.701,-0.621 1.87,-0.621 2.027,-0.557 2.146,-0.437 2.211,-0.281
3D body "MK.stp": height 1.4, standoff -0.5, extent -3.469,-2.78 4.231,2.42

## PM254-1-02-W-8.5 [mm] "2p 弯针"
pads (2):
  round 1.9 hole 1 paste+0 mask+0.05: 1(-1.257,4.793) 2(1.283,4.793)
Top Overlay:
  lines w0.254: -1.257,3.293 -1.257,3.612 ; -2.667,-5.207 -2.667,3.293 2.693,3.293 2.693,-5.207 -2.667,-5.207 ; 1.283,3.293 1.283,3.612 1.283,3.293
Mechanical 6:
  region: -2.54,3.293 -2.54,-5.207 -2.54,-5.26 -2.614,-5.334 -2.72,-5.334 -2.794,-5.26 -2.794,-5.207 -2.794,3.293 -2.794,3.346 -2.72,3.42 -2.614,3.42 -2.54,3.346
  region: 2.82,3.293 2.82,-5.207 2.82,-5.26 2.746,-5.334 2.64,-5.334 2.566,-5.26 2.566,-5.207 2.566,3.293 2.566,3.346 2.64,3.42 2.746,3.42 2.82,3.346
  region: -2.667,-5.08 2.693,-5.08 2.746,-5.08 2.82,-5.154 2.82,-5.26 2.746,-5.334 2.693,-5.334 -2.667,-5.334 -2.72,-5.334 -2.794,-5.26 -2.794,-5.154 -2.72,-5.08
Mechanical 15:
  region: 0.963,4.993 1.603,4.993 1.603,4.593 0.963,4.593
  region: -1.577,4.993 -0.937,4.993 -0.937,4.593 -1.577,4.593
  region: -0.937,4.993 -1.577,4.993 -1.577,3.283 -0.937,3.283
  region: 1.603,4.993 0.963,4.993 0.963,3.283 1.603,3.283
  region: -2.667,-5.207 -2.667,-5.182 -2.702,-5.147 -2.752,-5.147 -2.787,-5.182 -2.787,-5.207 -2.787,-5.232 -2.752,-5.267 -2.702,-5.267 -2.667,-5.232
  lines w0.051: -2.727,-5.207 2.753,-5.207 2.753,3.293 -2.727,3.293 -2.727,-5.207
3D body "3333D_.stp": height 2.5, standoff -3.2, extent -2.745,-5.149 2.745,5.001

## PTS810SJG250SMTRLFS [mm] "轻触开关"
pads (4):
  rect 1.2x0.65 smd: 1(-2.067,0.928) 2(2.088,0.921) 3(-2.066,-1.238) 4(2.082,-1.23)
Top Overlay:
  circle w0.254: c0.011,-0.155 r1
  lines w0.2: -1.989,-1.767 -1.989,-1.905 2.011,-1.905 2.011,-1.759 ; -1.989,-0.709 -1.989,0.399 ; -1.989,1.457 -1.989,1.595 2.011,1.595 2.011,1.45 ; 2.011,-0.7 2.011,0.391
Mechanical 15:
  region: -1.489,0.653 -2.189,0.653 -2.189,1.203 -1.489,1.203
  region: -2.139,0.653 -2.289,0.653 -2.289,1.203 -2.139,1.203
  region: -1.489,-1.514 -2.189,-1.514 -2.189,-0.963 -1.489,-0.963
  region: -2.139,-1.514 -2.289,-1.514 -2.289,-0.963 -2.139,-0.963
  region: 1.504,-0.954 2.204,-0.954 2.204,-1.505 1.504,-1.505
  region: 2.154,-0.954 2.304,-0.954 2.304,-1.505 2.154,-1.505
  region: 2.161,1.196 2.311,1.196 2.311,0.646 2.161,0.646
  region: 1.511,1.196 2.211,1.196 2.211,0.646 1.511,0.646
  region: -2.229,1.445 -2.229,1.42 -2.264,1.385 -2.314,1.385 -2.349,1.42 -2.349,1.445 -2.349,1.47 -2.314,1.505 -2.264,1.505 -2.229,1.47
  lines w0.051: -2.089,-1.755 2.111,-1.755 2.111,1.445 -2.089,1.445 -2.089,-1.755
3D body "9090909未命名-EasyEDA PCB Model~Wby2.step": height 2.33, standoff -0.05, extent -2.4,-1.662 2.4,1.27

## PZ254-2-04-W-8.5 [mm] "2.54mm 2x4p 弯针"
pads (8):
  rect 1.7x1.7 hole 1.1 paste+0 mask+0.05: 1(-3.279,2.359)
  round 1.7 hole 1.1 paste+0 mask+0.05: 2(-3.279,4.899) 3(-0.739,2.359) 4(-0.739,4.899) 5(1.801,2.359) 6(1.801,4.899) 7(4.341,2.359) 8(4.341,4.899)
Top Overlay:
  lines w0.254: -3.723,-2.001 -3.723,-8.001 -2.829,-8.001 -2.829,-2.001 ; -1.209,-2.001 -1.209,-8.001 -0.314,-8.001 -0.314,-2.001 ; 1.382,-2.001 1.382,-8.001 2.277,-8.001 2.277,-2.001 ; 3.846,-2.001 3.846,-8.001 4.74,-8.001 4.74,-2.001 ; -4.699,-2.001 -4.699,0.499 5.761,0.499 5.761,-2.001 -4.699,-2.001
Mechanical 6:
  region: -3.616,-2.044 -2.962,-2.044 -2.962,-7.698 -3.616,-7.698
  region: -1.076,-2.044 -0.422,-2.044 -0.422,-7.698 -1.076,-7.698
  region: 1.464,-2.044 2.118,-2.044 2.118,-7.698 1.464,-7.698
  region: 4.004,-2.044 4.658,-2.044 4.658,-7.698 4.004,-7.698
Mechanical 15:
  region: -3.599,-7.681 -3.599,5.219 -2.959,5.219 -2.959,-7.681
  region: -1.059,-7.681 -1.059,5.219 -0.419,5.219 -0.419,-7.681
  region: 1.481,-7.681 1.481,5.219 2.121,5.219 2.121,-7.681
  region: 4.021,-7.681 4.021,5.219 4.661,5.219 4.661,-7.681
  region: -3.599,2.679 -2.959,2.679 -2.959,2.039 -3.599,2.039
  region: -3.599,5.219 -2.959,5.219 -2.959,4.579 -3.599,4.579
  region: -1.059,2.679 -0.419,2.679 -0.419,2.039 -1.059,2.039
  region: -1.059,5.219 -0.419,5.219 -0.419,4.579 -1.059,4.579
  region: 1.481,2.679 2.121,2.679 2.121,2.039 1.481,2.039
  region: 1.481,5.219 2.121,5.219 2.121,4.579 1.481,4.579
  region: 4.021,2.679 4.661,2.679 4.661,2.039 4.021,2.039
  region: 4.021,5.219 4.661,5.219 4.661,4.579 4.021,4.579
  region: -4.489,-7.681 -4.489,-7.656 -4.524,-7.621 -4.574,-7.621 -4.609,-7.656 -4.609,-7.681 -4.609,-7.706 -4.574,-7.741 -4.524,-7.741 -4.489,-7.706
  lines w0.051: -4.549,-2.001 5.611,-2.001 5.611,0.499 -4.549,0.499 -4.549,-2.001
3D body "2x4p.stp": height 5, standoff -3, extent -4.572,-7.567 5.598,5.333